# Altium integrated library WCAP-ASLL_rev15a.intlib: 75 symbols (part 2 of 2)
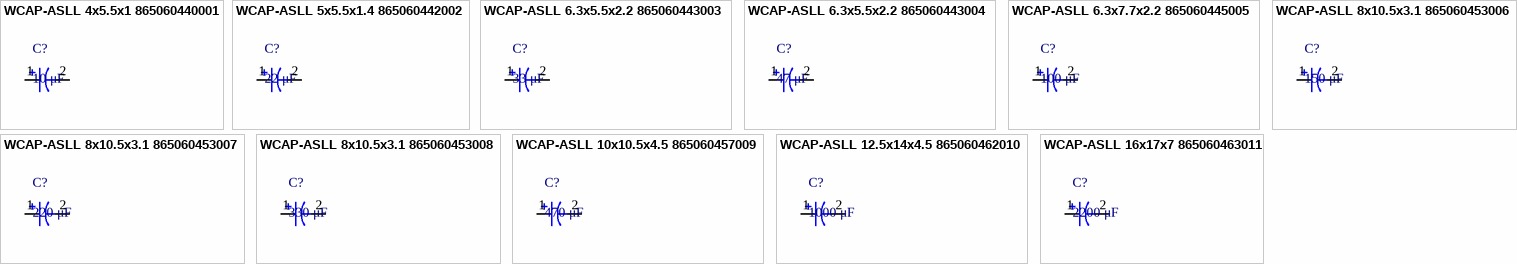
[diagram p6: symbols WCAP-ASLL 4x5.5x1 865060440001 to WCAP-ASLL 16x17x7 865060463011]

## WCAP-ASLL 8x10.5x3.1 865060453008
designator C?, comment 330 μF
WCAP-ASLL Aluminum Electrolytic Capacitors , 330 μF; + / - 20%; 25 V , 8 x 10,5; Manufacturer: Wurth Elektronik; partNo: 865060453008; E-mail: libraries@we-online.com; Characteristics: Aluminum Electrolytic Capacitor;Recommended soldering: Reflow;Operating temperature: –55 °C to +105 °C;Low impedance product series;Load life: 2000–5000 h @ +105 °C; ComponentLink1Description: Manufacturer; ComponentLink1URL: http://www.we-online.com; ComponentLink2Description: Datasheet; ComponentLink2URL: http://katalog.we-online.de/pbs/datasheet/865060453008.pdf; Created by: Karrer Zheng; Created Date: 5/13/2015; Capacitance: 330 μF; Application: Energy storage or high frequency filtering in the low voltage circuit; used as power supply filtering in general switching power supply, DC-DC converter, AC-DC converter, conversion adapter, charger, TV, VCR, DC motor circuit filter, digital audio, digital TV, digital camera, digital video camera, satellite receiver, equipment control panel and etc.
footprint WCAP-ASLL 8x10.5x3.1
pins: 1, 2

## WCAP-ASLL 10x10.5x4.5 865060457009
designator C?, comment 470 μF
WCAP-ASLL Aluminum Electrolytic Capacitors , 470 μF; + / - 20%; 25 V , 10 x 10,5; Manufacturer: Wurth Elektronik; partNo: 865060457009; E-mail: libraries@we-online.com; Characteristics: Aluminum Electrolytic Capacitor;Recommended soldering: Reflow;Operating temperature: –55 °C to +105 °C;Low impedance product series;Load life: 2000–5000 h @ +105 °C; ComponentLink1Description: Manufacturer; ComponentLink1URL: http://www.we-online.com; ComponentLink2Description: Datasheet; ComponentLink2URL: http://katalog.we-online.de/pbs/datasheet/865060457009.pdf; Created by: Karrer Zheng; Created Date: 5/13/2015; Capacitance: 470 μF; Application: Energy storage or high frequency filtering in the low voltage circuit; used as power supply filtering in general switching power supply, DC-DC converter, AC-DC converter, conversion adapter, charger, TV, VCR, DC motor circuit filter, digital audio, digital TV, digital camera, digital video camera, satellite receiver, equipment control panel and etc.
footprint WCAP-ASLL 10x10.5x4.5
pins: 1, 2

## WCAP-ASLL 12.5x14x4.5 865060462010
designator C?, comment 1000 μF
WCAP-ASLL Aluminum Electrolytic Capacitors , 1000 μF; + / - 20%; 25 V , 12,5 x 14; Manufacturer: Wurth Elektronik; partNo: 865060462010; E-mail: libraries@we-online.com; Characteristics: Aluminum Electrolytic Capacitor;Recommended soldering: Reflow;Operating temperature: –55 °C to +105 °C;Low impedance product series;Load life: 2000–5000 h @ +105 °C; ComponentLink1Description: Manufacturer; ComponentLink1URL: http://www.we-online.com; ComponentLink2Description: Datasheet; ComponentLink2URL: http://katalog.we-online.de/pbs/datasheet/865060462010.pdf; Created by: Karrer Zheng; Created Date: 5/13/2015; Capacitance: 1000 μF; Application: Energy storage or high frequency filtering in the low voltage circuit; used as power supply filtering in general switching power supply, DC-DC converter, AC-DC converter, conversion adapter, charger, TV, VCR, DC motor circuit filter, digital audio, digital TV, digital camera, digital video camera, satellite receiver, equipment control panel and etc.
footprint WCAP-ASLL 12.5x14x4.5
pins: 1, 2

## WCAP-ASLL 16x17x7 865060463011
designator C?, comment 2200 μF
WCAP-ASLL Aluminum Electrolytic Capacitors , 2200 μF; + / - 20%; 25 V , 16 x 17; Manufacturer: Wurth Elektronik; partNo: 865060463011; E-mail: libraries@we-online.com; Characteristics: Aluminum Electrolytic Capacitor;Recommended soldering: Reflow;Operating temperature: –55 °C to +105 °C;Low impedance product series;Load life: 2000–5000 h @ +105 °C; ComponentLink1Description: Manufacturer; ComponentLink1URL: http://www.we-online.com; ComponentLink2Description: Datasheet; ComponentLink2URL: http://katalog.we-online.de/pbs/datasheet/865060463011.pdf; Created by: Karrer Zheng; Created Date: 5/13/2015; Capacitance: 2200 μF; Application: Energy storage or high frequency filtering in the low voltage circuit; used as power supply filtering in general switching power supply, DC-DC converter, AC-DC converter, conversion adapter, charger, TV, VCR, DC motor circuit filter, digital audio, digital TV, digital camera, digital video camera, satellite receiver, equipment control panel and etc.
footprint WCAP-ASLL 16x17x7
pins: 1, 2


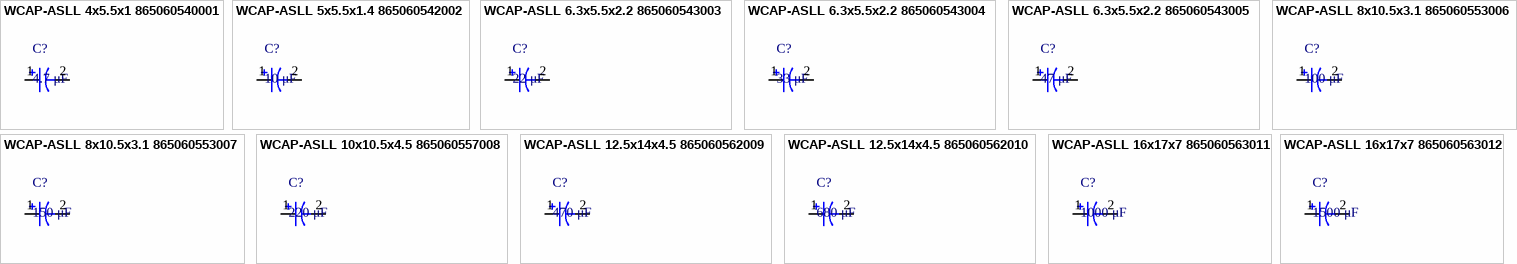
[diagram p4: symbols WCAP-ASLL 4x5.5x1 865060540001 to WCAP-ASLL 16x17x7 865060563012]

## WCAP-ASLL 4x5.5x1 865060540001
designator C?, comment 4.7 μF
WCAP-ASLL Aluminum Electrolytic Capacitors , 4,7 μF; + / - 20%; 35 V , 4 x 5,5; Manufacturer: Wurth Elektronik; partNo: 865060540001; E-mail: libraries@we-online.com; Characteristics: Aluminum Electrolytic Capacitor;Recommended soldering: Reflow;Operating temperature: –55 °C to +105 °C;Low impedance product series;Load life: 2000–5000 h @ +105 °C; ComponentLink1Description: Manufacturer; ComponentLink1URL: http://www.we-online.com; ComponentLink2Description: Datasheet; ComponentLink2URL: http://katalog.we-online.de/pbs/datasheet/865060540001.pdf; Created by: Karrer Zheng; Created Date: 5/13/2015; Capacitance: 4.7 μF; Application: Energy storage or high frequency filtering in the low voltage circuit; used as power supply filtering in general switching power supply, DC-DC converter, AC-DC converter, conversion adapter, charger, TV, VCR, DC motor circuit filter, digital audio, digital TV, digital camera, digital video camera, satellite receiver, equipment control panel and etc.
footprint WCAP-ASLL 4x5.5x1
pins: 1, 2

## WCAP-ASLL 5x5.5x1.4 865060542002
designator C?, comment 10 μF
WCAP-ASLL Aluminum Electrolytic Capacitors , 10 μF; + / - 20%; 35 V , 5 x 5,5; Manufacturer: Wurth Elektronik; partNo: 865060542002; E-mail: libraries@we-online.com; Characteristics: Aluminum Electrolytic Capacitor;Recommended soldering: Reflow;Operating temperature: –55 °C to +105 °C;Low impedance product series;Load life: 2000–5000 h @ +105 °C; ComponentLink1Description: Manufacturer; ComponentLink1URL: http://www.we-online.com; ComponentLink2Description: Datasheet; ComponentLink2URL: http://katalog.we-online.de/pbs/datasheet/865060542002.pdf; Created by: Karrer Zheng; Created Date: 5/13/2015; Capacitance: 10 μF; Application: Energy storage or high frequency filtering in the low voltage circuit; used as power supply filtering in general switching power supply, DC-DC converter, AC-DC converter, conversion adapter, charger, TV, VCR, DC motor circuit filter, digital audio, digital TV, digital camera, digital video camera, satellite receiver, equipment control panel and etc.
footprint WCAP-ASLL 5x5.5x1.4
pins: 1, 2

## WCAP-ASLL 6.3x5.5x2.2 865060543003
designator C?, comment 22 μF
WCAP-ASLL Aluminum Electrolytic Capacitors , 22 μF; + / - 20%; 35 V , 6,3 x 5,5; Manufacturer: Wurth Elektronik; partNo: 865060543003; E-mail: libraries@we-online.com; Characteristics: Aluminum Electrolytic Capacitor;Recommended soldering: Reflow;Operating temperature: –55 °C to +105 °C;Low impedance product series;Load life: 2000–5000 h @ +105 °C; ComponentLink1Description: Manufacturer; ComponentLink1URL: http://www.we-online.com; ComponentLink2Description: Datasheet; ComponentLink2URL: http://katalog.we-online.de/pbs/datasheet/865060543003.pdf; Created by: Karrer Zheng; Created Date: 5/13/2015; Capacitance: 22 μF; Application: Energy storage or high frequency filtering in the low voltage circuit; used as power supply filtering in general switching power supply, DC-DC converter, AC-DC converter, conversion adapter, charger, TV, VCR, DC motor circuit filter, digital audio, digital TV, digital camera, digital video camera, satellite receiver, equipment control panel and etc.
footprint WCAP-ASLL 6.3x5.5x2.2
pins: 1, 2

## WCAP-ASLL 6.3x5.5x2.2 865060543004
designator C?, comment 33 μF
WCAP-ASLL Aluminum Electrolytic Capacitors , 33 μF; + / - 20%; 35 V , 6,3 x 5,5; Manufacturer: Wurth Elektronik; partNo: 865060543004; E-mail: libraries@we-online.com; Characteristics: Aluminum Electrolytic Capacitor;Recommended soldering: Reflow;Operating temperature: –55 °C to +105 °C;Low impedance product series;Load life: 2000–5000 h @ +105 °C; ComponentLink1Description: Manufacturer; ComponentLink1URL: http://www.we-online.com; ComponentLink2Description: Datasheet; ComponentLink2URL: http://katalog.we-online.de/pbs/datasheet/865060543004.pdf; Created by: Karrer Zheng; Created Date: 5/13/2015; Capacitance: 33 μF; Application: Energy storage or high frequency filtering in the low voltage circuit; used as power supply filtering in general switching power supply, DC-DC converter, AC-DC converter, conversion adapter, charger, TV, VCR, DC motor circuit filter, digital audio, digital TV, digital camera, digital video camera, satellite receiver, equipment control panel and etc.
footprint WCAP-ASLL 6.3x5.5x2.2
pins: 1, 2

## WCAP-ASLL 6.3x5.5x2.2 865060543005
designator C?, comment 47 μF
WCAP-ASLL Aluminum Electrolytic Capacitors , 47 μF; + / - 20%; 35 V , 6,3 x 5,5; Manufacturer: Wurth Elektronik; partNo: 865060543005; E-mail: libraries@we-online.com; Characteristics: Aluminum Electrolytic Capacitor;Recommended soldering: Reflow;Operating temperature: –55 °C to +105 °C;Low impedance product series;Load life: 2000–5000 h @ +105 °C; ComponentLink1Description: Manufacturer; ComponentLink1URL: http://www.we-online.com; ComponentLink2Description: Datasheet; ComponentLink2URL: http://katalog.we-online.de/pbs/datasheet/865060543005.pdf; Created by: Karrer Zheng; Created Date: 5/13/2015; Capacitance: 47 μF; Application: Energy storage or high frequency filtering in the low voltage circuit; used as power supply filtering in general switching power supply, DC-DC converter, AC-DC converter, conversion adapter, charger, TV, VCR, DC motor circuit filter, digital audio, digital TV, digital camera, digital video camera, satellite receiver, equipment control panel and etc.
footprint WCAP-ASLL 6.3x5.5x2.2
pins: 1, 2

## WCAP-ASLL 8x10.5x3.1 865060553006
designator C?, comment 100 μF
WCAP-ASLL Aluminum Electrolytic Capacitors , 100 μF; + / - 20%; 35 V , 8 x 10,5; Manufacturer: Wurth Elektronik; partNo: 865060553006; E-mail: libraries@we-online.com; Characteristics: Aluminum Electrolytic Capacitor;Recommended soldering: Reflow;Operating temperature: –55 °C to +105 °C;Low impedance product series;Load life: 2000–5000 h @ +105 °C; ComponentLink1Description: Manufacturer; ComponentLink1URL: http://www.we-online.com; ComponentLink2Description: Datasheet; ComponentLink2URL: http://katalog.we-online.de/pbs/datasheet/865060553006.pdf; Created by: Karrer Zheng; Created Date: 5/13/2015; Capacitance: 100 μF; Application: Energy storage or high frequency filtering in the low voltage circuit; used as power supply filtering in general switching power supply, DC-DC converter, AC-DC converter, conversion adapter, charger, TV, VCR, DC motor circuit filter, digital audio, digital TV, digital camera, digital video camera, satellite receiver, equipment control panel and etc.
footprint WCAP-ASLL 8x10.5x3.1
pins: 1, 2

## WCAP-ASLL 8x10.5x3.1 865060553007
designator C?, comment 150 μF
WCAP-ASLL Aluminum Electrolytic Capacitors , 150 μF; + / - 20%; 35 V , 8 x 10,5; Manufacturer: Wurth Elektronik; partNo: 865060553007; E-mail: libraries@we-online.com; Characteristics: Aluminum Electrolytic Capacitor;Recommended soldering: Reflow;Operating temperature: –55 °C to +105 °C;Low impedance product series;Load life: 2000–5000 h @ +105 °C; ComponentLink1Description: Manufacturer; ComponentLink1URL: http://www.we-online.com; ComponentLink2Description: Datasheet; ComponentLink2URL: http://katalog.we-online.de/pbs/datasheet/865060553007.pdf; Created by: Karrer Zheng; Created Date: 5/13/2015; Capacitance: 150 μF; Application: Energy storage or high frequency filtering in the low voltage circuit; used as power supply filtering in general switching power supply, DC-DC converter, AC-DC converter, conversion adapter, charger, TV, VCR, DC motor circuit filter, digital audio, digital TV, digital camera, digital video camera, satellite receiver, equipment control panel and etc.
footprint WCAP-ASLL 8x10.5x3.1
pins: 1, 2

## WCAP-ASLL 10x10.5x4.5 865060557008
designator C?, comment 220 μF
WCAP-ASLL Aluminum Electrolytic Capacitors , 220 μF; + / - 20%; 35 V , 10 x 10,5; Manufacturer: Wurth Elektronik; partNo: 865060557008; E-mail: libraries@we-online.com; Characteristics: Aluminum Electrolytic Capacitor;Recommended soldering: Reflow;Operating temperature: –55 °C to +105 °C;Low impedance product series;Load life: 2000–5000 h @ +105 °C; ComponentLink1Description: Manufacturer; ComponentLink1URL: http://www.we-online.com; ComponentLink2Description: Datasheet; ComponentLink2URL: http://katalog.we-online.de/pbs/datasheet/865060557008.pdf; Created by: Karrer Zheng; Created Date: 5/13/2015; Capacitance: 220 μF; Application: Energy storage or high frequency filtering in the low voltage circuit; used as power supply filtering in general switching power supply, DC-DC converter, AC-DC converter, conversion adapter, charger, TV, VCR, DC motor circuit filter, digital audio, digital TV, digital camera, digital video camera, satellite receiver, equipment control panel and etc.
footprint WCAP-ASLL 10x10.5x4.5
pins: 1, 2

## WCAP-ASLL 12.5x14x4.5 865060562009
designator C?, comment 470 μF
WCAP-ASLL Aluminum Electrolytic Capacitors , 470 μF; + / - 20%; 35 V , 12,5 x 14; Manufacturer: Wurth Elektronik; partNo: 865060562009; E-mail: libraries@we-online.com; Characteristics: Aluminum Electrolytic Capacitor;Recommended soldering: Reflow;Operating temperature: –55 °C to +105 °C;Low impedance product series;Load life: 2000–5000 h @ +105 °C; ComponentLink1Description: Manufacturer; ComponentLink1URL: http://www.we-online.com; ComponentLink2Description: Datasheet; ComponentLink2URL: http://katalog.we-online.de/pbs/datasheet/865060562009.pdf; Created by: Karrer Zheng; Created Date: 5/13/2015; Capacitance: 470 μF; Application: Energy storage or high frequency filtering in the low voltage circuit; used as power supply filtering in general switching power supply, DC-DC converter, AC-DC converter, conversion adapter, charger, TV, VCR, DC motor circuit filter, digital audio, digital TV, digital camera, digital video camera, satellite receiver, equipment control panel and etc.
footprint WCAP-ASLL 12.5x14x4.5
pins: 1, 2

## WCAP-ASLL 12.5x14x4.5 865060562010
designator C?, comment 680 μF
WCAP-ASLL Aluminum Electrolytic Capacitors , 680 μF; + / - 20%; 35 V , 12,5 x 14; Manufacturer: Wurth Elektronik; partNo: 865060562010; E-mail: libraries@we-online.com; Characteristics: Aluminum Electrolytic Capacitor;Recommended soldering: Reflow;Operating temperature: –55 °C to +105 °C;Low impedance product series;Load life: 2000–5000 h @ +105 °C; ComponentLink1Description: Manufacturer; ComponentLink1URL: http://www.we-online.com; ComponentLink2Description: Datasheet; ComponentLink2URL: http://katalog.we-online.de/pbs/datasheet/865060562010.pdf; Created by: Karrer Zheng; Created Date: 5/13/2015; Capacitance: 680 μF; Application: Energy storage or high frequency filtering in the low voltage circuit; used as power supply filtering in general switching power supply, DC-DC converter, AC-DC converter, conversion adapter, charger, TV, VCR, DC motor circuit filter, digital audio, digital TV, digital camera, digital video camera, satellite receiver, equipment control panel and etc.
footprint WCAP-ASLL 12.5x14x4.5
pins: 1, 2

## WCAP-ASLL 16x17x7 865060563011
designator C?, comment 1000 μF
WCAP-ASLL Aluminum Electrolytic Capacitors , 1000 μF; + / - 20%; 35 V , 16 x 17; Manufacturer: Wurth Elektronik; partNo: 865060563011; E-mail: libraries@we-online.com; Characteristics: Aluminum Electrolytic Capacitor;Recommended soldering: Reflow;Operating temperature: –55 °C to +105 °C;Low impedance product series;Load life: 2000–5000 h @ +105 °C; ComponentLink1Description: Manufacturer; ComponentLink1URL: http://www.we-online.com; ComponentLink2Description: Datasheet; ComponentLink2URL: http://katalog.we-online.de/pbs/datasheet/865060563011.pdf; Created by: Karrer Zheng; Created Date: 5/13/2015; Capacitance: 1000 μF; Application: Energy storage or high frequency filtering in the low voltage circuit; used as power supply filtering in general switching power supply, DC-DC converter, AC-DC converter, conversion adapter, charger, TV, VCR, DC motor circuit filter, digital audio, digital TV, digital camera, digital video camera, satellite receiver, equipment control panel and etc.
footprint WCAP-ASLL 16x17x7
pins: 1, 2

## WCAP-ASLL 16x17x7 865060563012
designator C?, comment 1500 μF
WCAP-ASLL Aluminum Electrolytic Capacitors , 1500 μF; + / - 20%; 35 V , 16 x 17; Manufacturer: Wurth Elektronik; partNo: 865060563012; E-mail: libraries@we-online.com; Characteristics: Aluminum Electrolytic Capacitor;Recommended soldering: Reflow;Operating temperature: –55 °C to +105 °C;Low impedance product series;Load life: 2000–5000 h @ +105 °C; ComponentLink1Description: Manufacturer; ComponentLink1URL: http://www.we-online.com; ComponentLink2Description: Datasheet; ComponentLink2URL: http://katalog.we-online.de/pbs/datasheet/865060563012.pdf; Created by: Karrer Zheng; Created Date: 5/13/2015; Capacitance: 1500 μF; Application: Energy storage or high frequency filtering in the low voltage circuit; used as power supply filtering in general switching power supply, DC-DC converter, AC-DC converter, conversion adapter, charger, TV, VCR, DC motor circuit filter, digital audio, digital TV, digital camera, digital video camera, satellite receiver, equipment control panel and etc.
footprint WCAP-ASLL 16x17x7
pins: 1, 2


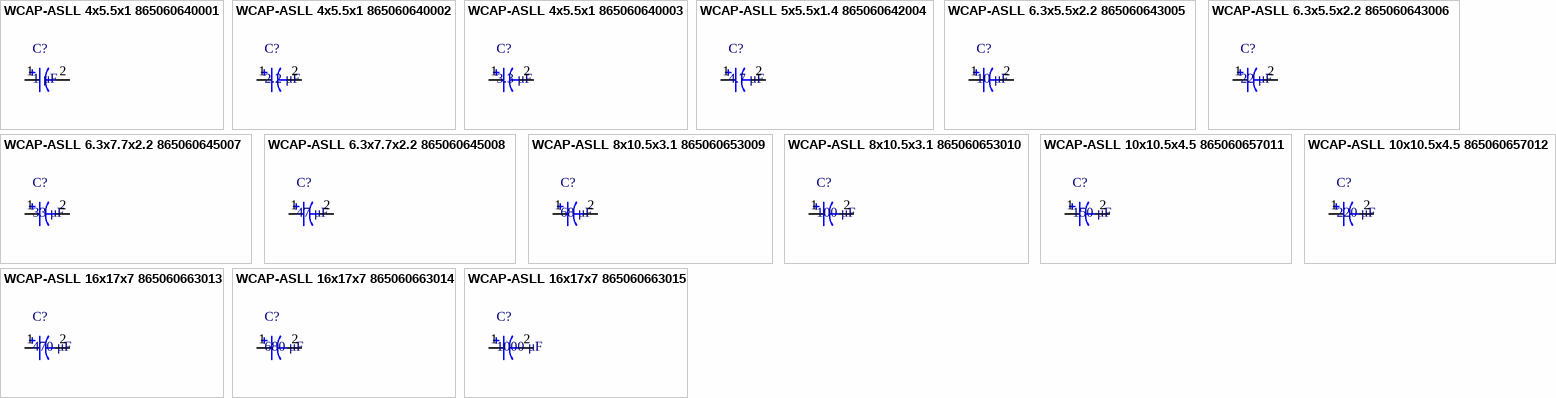
[diagram p5: symbols WCAP-ASLL 4x5.5x1 865060640001 to WCAP-ASLL 16x17x7 865060663015]

## WCAP-ASLL 4x5.5x1 865060640001
designator C?, comment 1 μF
WCAP-ASLL Aluminum Electrolytic Capacitors , 1 μF; + / - 20%; 50 V , 4 x 5,5; Manufacturer: Wurth Elektronik; partNo: 865060640001; E-mail: libraries@we-online.com; Characteristics: Aluminum Electrolytic Capacitor;Recommended soldering: Reflow;Operating temperature: –55 °C to +105 °C;Low impedance product series;Load life: 2000–5000 h @ +105 °C; ComponentLink1Description: Manufacturer; ComponentLink1URL: http://www.we-online.com; ComponentLink2Description: Datasheet; ComponentLink2URL: http://katalog.we-online.de/pbs/datasheet/865060640001.pdf; Created by: Karrer Zheng; Created Date: 5/13/2015; Capacitance: 1 μF; Application: Energy storage or high frequency filtering in the low voltage circuit; used as power supply filtering in general switching power supply, DC-DC converter, AC-DC converter, conversion adapter, charger, TV, VCR, DC motor circuit filter, digital audio, digital TV, digital camera, digital video camera, satellite receiver, equipment control panel and etc.
footprint WCAP-ASLL 4x5.5x1
pins: 1, 2

## WCAP-ASLL 4x5.5x1 865060640002
designator C?, comment 2.2 μF
WCAP-ASLL Aluminum Electrolytic Capacitors , 2,2 μF; + / - 20%; 50 V , 4 x 5,5; Manufacturer: Wurth Elektronik; partNo: 865060640002; E-mail: libraries@we-online.com; Characteristics: Aluminum Electrolytic Capacitor;Recommended soldering: Reflow;Operating temperature: –55 °C to +105 °C;Low impedance product series;Load life: 2000–5000 h @ +105 °C; ComponentLink1Description: Manufacturer; ComponentLink1URL: http://www.we-online.com; ComponentLink2Description: Datasheet; ComponentLink2URL: http://katalog.we-online.de/pbs/datasheet/865060640002.pdf; Created by: Karrer Zheng; Created Date: 5/13/2015; Capacitance: 2.2 μF; Application: Energy storage or high frequency filtering in the low voltage circuit; used as power supply filtering in general switching power supply, DC-DC converter, AC-DC converter, conversion adapter, charger, TV, VCR, DC motor circuit filter, digital audio, digital TV, digital camera, digital video camera, satellite receiver, equipment control panel and etc.
footprint WCAP-ASLL 4x5.5x1
pins: 1, 2

## WCAP-ASLL 4x5.5x1 865060640003
designator C?, comment 3.3 μF
WCAP-ASLL Aluminum Electrolytic Capacitors , 3,3 μF; + / - 20%; 50 V , 4 x 5,5; Manufacturer: Wurth Elektronik; partNo: 865060640003; E-mail: libraries@we-online.com; Characteristics: Aluminum Electrolytic Capacitor;Recommended soldering: Reflow;Operating temperature: –55 °C to +105 °C;Low impedance product series;Load life: 2000–5000 h @ +105 °C; ComponentLink1Description: Manufacturer; ComponentLink1URL: http://www.we-online.com; ComponentLink2Description: Datasheet; ComponentLink2URL: http://katalog.we-online.de/pbs/datasheet/865060640003.pdf; Created by: Karrer Zheng; Created Date: 5/13/2015; Capacitance: 3.3 μF; Application: Energy storage or high frequency filtering in the low voltage circuit; used as power supply filtering in general switching power supply, DC-DC converter, AC-DC converter, conversion adapter, charger, TV, VCR, DC motor circuit filter, digital audio, digital TV, digital camera, digital video camera, satellite receiver, equipment control panel and etc.
footprint WCAP-ASLL 4x5.5x1
pins: 1, 2

## WCAP-ASLL 5x5.5x1.4 865060642004
designator C?, comment 4.7 μF
WCAP-ASLL Aluminum Electrolytic Capacitors , 4,7 μF; + / - 20%; 50 V , 5 x 5,5; Manufacturer: Wurth Elektronik; partNo: 865060642004; E-mail: libraries@we-online.com; Characteristics: Aluminum Electrolytic Capacitor;Recommended soldering: Reflow;Operating temperature: –55 °C to +105 °C;Low impedance product series;Load life: 2000–5000 h @ +105 °C; ComponentLink1Description: Manufacturer; ComponentLink1URL: http://www.we-online.com; ComponentLink2Description: Datasheet; ComponentLink2URL: http://katalog.we-online.de/pbs/datasheet/865060642004.pdf; Created by: Karrer Zheng; Created Date: 5/13/2015; Capacitance: 4.7 μF; Application: Energy storage or high frequency filtering in the low voltage circuit; used as power supply filtering in general switching power supply, DC-DC converter, AC-DC converter, conversion adapter, charger, TV, VCR, DC motor circuit filter, digital audio, digital TV, digital camera, digital video camera, satellite receiver, equipment control panel and etc.
footprint WCAP-ASLL 5x5.5x1.4
pins: 1, 2

## WCAP-ASLL 6.3x5.5x2.2 865060643005
designator C?, comment 10 μF
WCAP-ASLL Aluminum Electrolytic Capacitors , 10 μF; + / - 20%; 50 V , 6,3 x 5,5; Manufacturer: Wurth Elektronik; partNo: 865060643005; E-mail: libraries@we-online.com; Characteristics: Aluminum Electrolytic Capacitor;Recommended soldering: Reflow;Operating temperature: –55 °C to +105 °C;Low impedance product series;Load life: 2000–5000 h @ +105 °C; ComponentLink1Description: Manufacturer; ComponentLink1URL: http://www.we-online.com; ComponentLink2Description: Datasheet; ComponentLink2URL: http://katalog.we-online.de/pbs/datasheet/865060643005.pdf; Created by: Karrer Zheng; Created Date: 5/13/2015; Capacitance: 10 μF; Application: Energy storage or high frequency filtering in the low voltage circuit; used as power supply filtering in general switching power supply, DC-DC converter, AC-DC converter, conversion adapter, charger, TV, VCR, DC motor circuit filter, digital audio, digital TV, digital camera, digital video camera, satellite receiver, equipment control panel and etc.
footprint WCAP-ASLL 6.3x5.5x2.2
pins: 1, 2

## WCAP-ASLL 6.3x5.5x2.2 865060643006
designator C?, comment 22 μF
WCAP-ASLL Aluminum Electrolytic Capacitors , 22 μF; + / - 20%; 50 V , 6,3 x 5,5; Manufacturer: Wurth Elektronik; partNo: 865060643006; E-mail: libraries@we-online.com; Characteristics: Aluminum Electrolytic Capacitor;Recommended soldering: Reflow;Operating temperature: –55 °C to +105 °C;Low impedance product series;Load life: 2000–5000 h @ +105 °C; ComponentLink1Description: Manufacturer; ComponentLink1URL: http://www.we-online.com; ComponentLink2Description: Datasheet; ComponentLink2URL: http://katalog.we-online.de/pbs/datasheet/865060643006.pdf; Created by: Karrer Zheng; Created Date: 5/13/2015; Capacitance: 22 μF; Application: Energy storage or high frequency filtering in the low voltage circuit; used as power supply filtering in general switching power supply, DC-DC converter, AC-DC converter, conversion adapter, charger, TV, VCR, DC motor circuit filter, digital audio, digital TV, digital camera, digital video camera, satellite receiver, equipment control panel and etc.
footprint WCAP-ASLL 6.3x5.5x2.2
pins: 1, 2

## WCAP-ASLL 6.3x7.7x2.2 865060645007
designator C?, comment 33 μF
WCAP-ASLL Aluminum Electrolytic Capacitors , 33 μF; + / - 20%; 50 V , 6,3 x 7,7; Manufacturer: Wurth Elektronik; partNo: 865060645007; E-mail: libraries@we-online.com; Characteristics: Aluminum Electrolytic Capacitor;Recommended soldering: Reflow;Operating temperature: –55 °C to +105 °C;Low impedance product series;Load life: 2000–5000 h @ +105 °C; ComponentLink1Description: Manufacturer; ComponentLink1URL: http://www.we-online.com; ComponentLink2Description: Datasheet; ComponentLink2URL: http://katalog.we-online.de/pbs/datasheet/865060645007.pdf; Created by: Karrer Zheng; Created Date: 5/13/2015; Capacitance: 33 μF; Application: Energy storage or high frequency filtering in the low voltage circuit; used as power supply filtering in general switching power supply, DC-DC converter, AC-DC converter, conversion adapter, charger, TV, VCR, DC motor circuit filter, digital audio, digital TV, digital camera, digital video camera, satellite receiver, equipment control panel and etc.
footprint WCAP-ASLL 6.3x7.7x2.2
pins: 1, 2

## WCAP-ASLL 6.3x7.7x2.2 865060645008
designator C?, comment 47 μF
WCAP-ASLL Aluminum Electrolytic Capacitors , 47 μF; + / - 20%; 50 V , 6,3 x 7,7; Manufacturer: Wurth Elektronik; partNo: 865060645008; E-mail: libraries@we-online.com; Characteristics: Aluminum Electrolytic Capacitor;Recommended soldering: Reflow;Operating temperature: –55 °C to +105 °C;Low impedance product series;Load life: 2000–5000 h @ +105 °C; ComponentLink1Description: Manufacturer; ComponentLink1URL: http://www.we-online.com; ComponentLink2Description: Datasheet; ComponentLink2URL: http://katalog.we-online.de/pbs/datasheet/865060645008.pdf; Created by: Karrer Zheng; Created Date: 5/13/2015; Capacitance: 47 μF; Application: Energy storage or high frequency filtering in the low voltage circuit; used as power supply filtering in general switching power supply, DC-DC converter, AC-DC converter, conversion adapter, charger, TV, VCR, DC motor circuit filter, digital audio, digital TV, digital camera, digital video camera, satellite receiver, equipment control panel and etc.
footprint WCAP-ASLL 6.3x7.7x2.2
pins: 1, 2

## WCAP-ASLL 8x10.5x3.1 865060653009
designator C?, comment 68 μF
WCAP-ASLL Aluminum Electrolytic Capacitors , 68 μF; + / - 20%; 50 V , 8 x 10,5; Manufacturer: Wurth Elektronik; partNo: 865060653009; E-mail: libraries@we-online.com; Characteristics: Aluminum Electrolytic Capacitor;Recommended soldering: Reflow;Operating temperature: –55 °C to +105 °C;Low impedance product series;Load life: 2000–5000 h @ +105 °C; ComponentLink1Description: Manufacturer; ComponentLink1URL: http://www.we-online.com; ComponentLink2Description: Datasheet; ComponentLink2URL: http://katalog.we-online.de/pbs/datasheet/865060653009.pdf; Created by: Karrer Zheng; Created Date: 5/13/2015; Capacitance: 68 μF; Application: Energy storage or high frequency filtering in the low voltage circuit; used as power supply filtering in general switching power supply, DC-DC converter, AC-DC converter, conversion adapter, charger, TV, VCR, DC motor circuit filter, digital audio, digital TV, digital camera, digital video camera, satellite receiver, equipment control panel and etc.
footprint WCAP-ASLL 8x10.5x3.1
pins: 1, 2

## WCAP-ASLL 8x10.5x3.1 865060653010
designator C?, comment 100 μF
WCAP-ASLL Aluminum Electrolytic Capacitors , 100 μF; + / - 20%; 50 V , 8 x 10,5; Manufacturer: Wurth Elektronik; partNo: 865060653010; E-mail: libraries@we-online.com; Characteristics: Aluminum Electrolytic Capacitor;Recommended soldering: Reflow;Operating temperature: –55 °C to +105 °C;Low impedance product series;Load life: 2000–5000 h @ +105 °C; ComponentLink1Description: Manufacturer; ComponentLink1URL: http://www.we-online.com; ComponentLink2Description: Datasheet; ComponentLink2URL: http://katalog.we-online.de/pbs/datasheet/865060653010.pdf; Created by: Karrer Zheng; Created Date: 5/13/2015; Capacitance: 100 μF; Application: Energy storage or high frequency filtering in the low voltage circuit; used as power supply filtering in general switching power supply, DC-DC converter, AC-DC converter, conversion adapter, charger, TV, VCR, DC motor circuit filter, digital audio, digital TV, digital camera, digital video camera, satellite receiver, equipment control panel and etc.
footprint WCAP-ASLL 8x10.5x3.1
pins: 1, 2

## WCAP-ASLL 10x10.5x4.5 865060657011
designator C?, comment 150 μF
WCAP-ASLL Aluminum Electrolytic Capacitors , 150 μF; + / - 20%; 50 V , 10 x 10,5; Manufacturer: Wurth Elektronik; partNo: 865060657011; E-mail: libraries@we-online.com; Characteristics: Aluminum Electrolytic Capacitor;Recommended soldering: Reflow;Operating temperature: –55 °C to +105 °C;Low impedance product series;Load life: 2000–5000 h @ +105 °C; ComponentLink1Description: Manufacturer; ComponentLink1URL: http://www.we-online.com; ComponentLink2Description: Datasheet; ComponentLink2URL: http://katalog.we-online.de/pbs/datasheet/865060657011.pdf; Created by: Karrer Zheng; Created Date: 5/13/2015; Capacitance: 150 μF; Application: Energy storage or high frequency filtering in the low voltage circuit; used as power supply filtering in general switching power supply, DC-DC converter, AC-DC converter, conversion adapter, charger, TV, VCR, DC motor circuit filter, digital audio, digital TV, digital camera, digital video camera, satellite receiver, equipment control panel and etc.
footprint WCAP-ASLL 10x10.5x4.5
pins: 1, 2

## WCAP-ASLL 10x10.5x4.5 865060657012
designator C?, comment 220 μF
WCAP-ASLL Aluminum Electrolytic Capacitors , 220 μF; + / - 20%; 50 V , 10 x 10,5; Manufacturer: Wurth Elektronik; partNo: 865060657012; E-mail: libraries@we-online.com; Characteristics: Aluminum Electrolytic Capacitor;Recommended soldering: Reflow;Operating temperature: –55 °C to +105 °C;Low impedance product series;Load life: 2000–5000 h @ +105 °C; ComponentLink1Description: Manufacturer; ComponentLink1URL: http://www.we-online.com; ComponentLink2Description: Datasheet; ComponentLink2URL: http://katalog.we-online.de/pbs/datasheet/865060657012.pdf; Created by: Karrer Zheng; Created Date: 5/13/2015; Capacitance: 220 μF; Application: Energy storage or high frequency filtering in the low voltage circuit; used as power supply filtering in general switching power supply, DC-DC converter, AC-DC converter, conversion adapter, charger, TV, VCR, DC motor circuit filter, digital audio, digital TV, digital camera, digital video camera, satellite receiver, equipment control panel and etc.
footprint WCAP-ASLL 10x10.5x4.5
pins: 1, 2

## WCAP-ASLL 16x17x7 865060663013
designator C?, comment 470 μF
WCAP-ASLL Aluminum Electrolytic Capacitors , 470 μF; + / - 20%; 50 V , 16 x 17; Manufacturer: Wurth Elektronik; partNo: 865060663013; E-mail: libraries@we-online.com; Characteristics: Aluminum Electrolytic Capacitor;Recommended soldering: Reflow;Operating temperature: –55 °C to +105 °C;Low impedance product series;Load life: 2000–5000 h @ +105 °C; ComponentLink1Description: Manufacturer; ComponentLink1URL: http://www.we-online.com; ComponentLink2Description: Datasheet; ComponentLink2URL: http://katalog.we-online.de/pbs/datasheet/865060663013.pdf; Created by: Karrer Zheng; Created Date: 5/13/2015; Capacitance: 470 μF; Application: Energy storage or high frequency filtering in the low voltage circuit; used as power supply filtering in general switching power supply, DC-DC converter, AC-DC converter, conversion adapter, charger, TV, VCR, DC motor circuit filter, digital audio, digital TV, digital camera, digital video camera, satellite receiver, equipment control panel and etc.
footprint WCAP-ASLL 16x17x7
pins: 1, 2

## WCAP-ASLL 16x17x7 865060663014
designator C?, comment 680 μF
WCAP-ASLL Aluminum Electrolytic Capacitors , 680 μF; + / - 20%; 50 V , 16 x 17; Manufacturer: Wurth Elektronik; partNo: 865060663014; E-mail: libraries@we-online.com; Characteristics: Aluminum Electrolytic Capacitor;Recommended soldering: Reflow;Operating temperature: –55 °C to +105 °C;Low impedance product series;Load life: 2000–5000 h @ +105 °C; ComponentLink1Description: Manufacturer; ComponentLink1URL: http://www.we-online.com; ComponentLink2Description: Datasheet; ComponentLink2URL: http://katalog.we-online.de/pbs/datasheet/865060663014.pdf; Created by: Karrer Zheng; Created Date: 5/13/2015; Capacitance: 680 μF; Application: Energy storage or high frequency filtering in the low voltage circuit; used as power supply filtering in general switching power supply, DC-DC converter, AC-DC converter, conversion adapter, charger, TV, VCR, DC motor circuit filter, digital audio, digital TV, digital camera, digital video camera, satellite receiver, equipment control panel and etc.
footprint WCAP-ASLL 16x17x7
pins: 1, 2

## WCAP-ASLL 16x17x7 865060663015
designator C?, comment 1000 μF
WCAP-ASLL Aluminum Electrolytic Capacitors , 1000 μF; + / - 20%; 50 V , 16 x 17; Manufacturer: Wurth Elektronik; partNo: 865060663015; E-mail: libraries@we-online.com; Characteristics: Aluminum Electrolytic Capacitor;Recommended soldering: Reflow;Operating temperature: –55 °C to +105 °C;Low impedance product series;Load life: 2000–5000 h @ +105 °C; ComponentLink1Description: Manufacturer; ComponentLink1URL: http://www.we-online.com; ComponentLink2Description: Datasheet; ComponentLink2URL: http://katalog.we-online.de/pbs/datasheet/865060663015.pdf; Created by: Karrer Zheng; Created Date: 5/13/2015; Capacitance: 1000 μF; Application: Energy storage or high frequency filtering in the low voltage circuit; used as power supply filtering in general switching power supply, DC-DC converter, AC-DC converter, conversion adapter, charger, TV, VCR, DC motor circuit filter, digital audio, digital TV, digital camera, digital video camera, satellite receiver, equipment control panel and etc.
footprint WCAP-ASLL 16x17x7
pins: 1, 2